# EAGLE library part LMP7721 (library Eagle-Library)
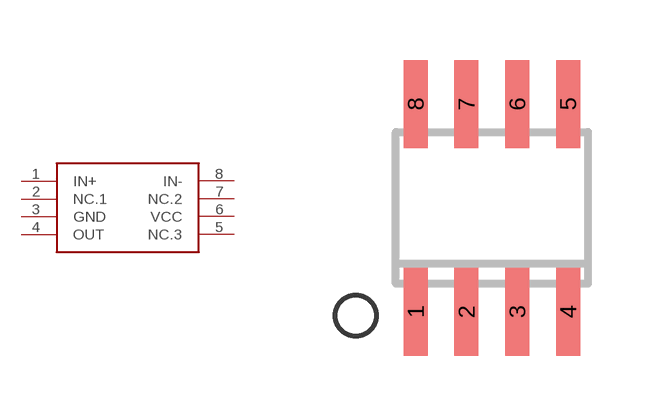
[diagram p8: symbol with the pads of SO8; footprint SO8]

Designator prefix -

## LMP7721  [SO8]
1  IN+
2  NC.1
3  GND
4  OUT
5  NC.3
6  VCC
7  NC.2
8  IN-

## Footprint SO8 (pad centres in mm)
SMALL OUTLINE INTEGRATED CIRCUIT
smd 0.6 x 2.2: 1 -1.905,-2.6; 2 -0.635,-2.6; 3 0.635,-2.6; 4 1.905,-2.6; 5 1.905,2.6; 6 0.635,2.6; 7 -0.635,2.6; 8 -1.905,2.6